# EAGLE library part TMS320VC5510AZGW2 (library DSPs)
IC FIXED POINT DSP 240-BGA Manufacturer's datasheet <http://www.ti.com/lit/ds/symlink/tms320vc5510a.pdf>
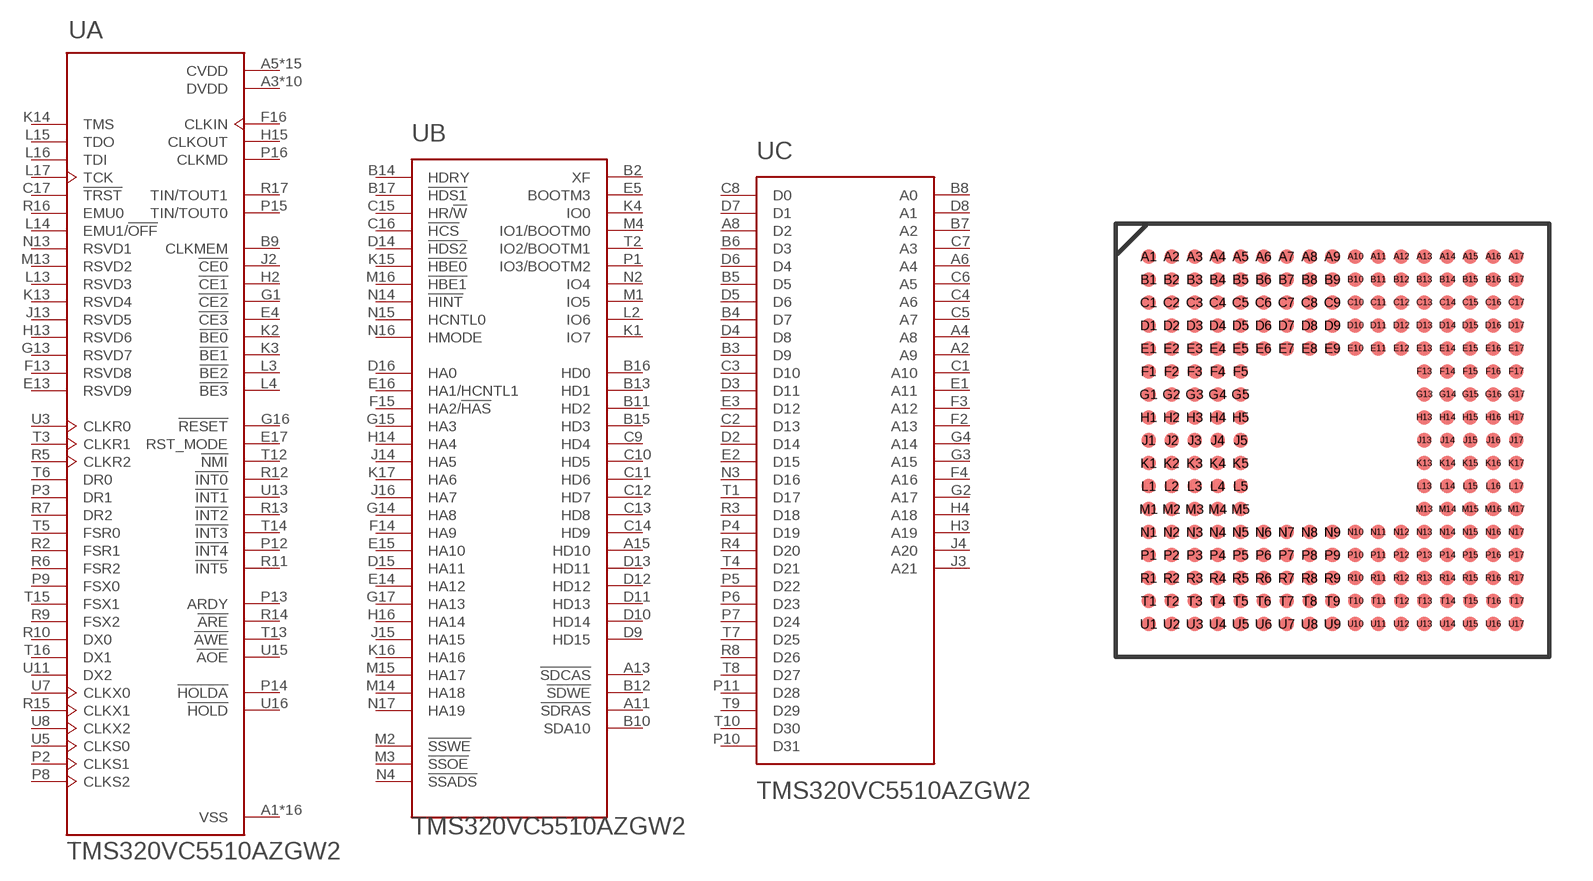
[diagram p7: symbol with the pads of BGA240; footprint BGA240]

Designator prefix U; gates A=TMS320VC5510AZGW2-1 B=TMS320VC5510AZGW2-3 C=TMS320VC5510AZGW2-2

## TMS320VC5510AZGW2 (CREATED_BY: PCBLayout.com; DIGIKEY_PART_NO: 296-26867-ND; MANUFACTURER: Texas Instruments; MPN: TMS320VC5510AZGW2; PACKAGE: BGA-240)  [BGA240]
A1  A:VSS  pwr
A2  C:A9  out
A3  A:DVDD  pwr
A4  C:A8  out
A5  A:CVDD  pwr
A6  C:A4  out
A7  A:DVDD  pwr
A8  C:D2
A9  A:VSS  pwr
A10  A:VSS  pwr
A11  B:!SDRAS  out
A12  A:DVDD  pwr
A13  B:!SDCAS  out
A14  A:CVDD  pwr
A15  B:HD10
A16  A:VSS  pwr
A17  A:VSS  pwr
B1  A:VSS  pwr
B2  B:XF  out
B3  C:D9
B4  C:D7
B5  C:D5
B6  C:D3
B7  C:A2  out
B8  C:A0  out
B9  A:CLKMEM  out
B10  B:SDA10  out
B11  B:HD2
B12  B:!SDWE  out
B13  B:HD1
B14  B:HDRY  out
B15  B:HD3
B16  B:HD0
B17  B:!HDS1  in
C1  C:A10  out
C2  C:D13
C3  C:D10
C4  C:A6  out
C5  C:A7  out
C6  C:A5  out
C7  C:A3  out
C8  C:D0
C9  B:HD4
C10  B:HD5
C11  B:HD6
C12  B:HD7
C13  B:HD8
C14  B:HD9
C15  B:HR/!W  in
C16  B:!HCS  in
C17  A:!TRST  in
D1  A:DVDD  pwr
D2  C:D14
D3  C:D11
D4  C:D8
D5  C:D6
D6  C:D4
D7  C:D1
D8  C:A1  out
D9  B:HD15
D10  B:HD14
D11  B:HD13
D12  B:HD12
D13  B:HD11
D14  B:!HDS2  in
D15  B:HA11  in
D16  B:HA0  in
D17  A:DVDD  pwr
E1  C:A11  out
E2  C:D15
E3  C:D12
E4  A:!CE3  out
E5  B:BOOTM3  in
E6  A:CVDD  pwr
E7  A:CVDD  pwr
E10  A:CVDD  pwr
E13  A:RSVD9
E14  B:HA12  in
E15  B:HA10  in
E16  B:HA1/HCNTL1  in
E17  A:RST_MODE  in
F1  A:DVDD  pwr
F2  C:A13  out
F3  C:A12  out
F4  C:A16  out
F5  A:CVDD  pwr
F13  A:RSVD8
F14  B:HA9  in
F15  B:HA2/!HAS  in
F16  A:CLKIN  in
F17  A:CVDD  pwr
G1  A:!CE2  out
G2  C:A17  out
G3  C:A15  out
G4  C:A14  out
G13  A:RSVD7
G14  B:HA8  in
G15  B:HA3  in
G16  A:!RESET  in
G17  B:HA13  in
H1  A:VSS  pwr
H2  A:!CE1  out
H3  C:A19  out
H4  C:A18  out
H13  A:RSVD6
H14  B:HA4  in
H15  A:CLKOUT  out
H16  B:HA14  in
H17  A:VSS  pwr
J1  A:VSS  pwr
J2  A:!CE0  out
J3  C:A21  out
J4  C:A20  out
J13  A:RSVD5
J14  B:HA5  in
J15  B:HA15  in
J16  B:HA7  in
J17  A:VSS  pwr
K1  B:IO7
K2  A:!BE0  out
K3  A:!BE1  out
K4  B:IO0
K5  A:CVDD  pwr
K13  A:RSVD4
K14  A:TMS  in
K15  B:!HBE0  in
K16  B:HA16  in
K17  B:HA6  in
L1  A:CVDD  pwr
L2  B:IO6
L3  A:!BE2  out
L4  A:!BE3  out
L13  A:RSVD3
L14  A:EMU1/!OFF
L15  A:TDO  out
L16  A:TDI  in
L17  A:TCK  in
M1  B:IO5
M2  B:!SSWE  out
M3  B:!SSOE  out
M4  B:IO1/BOOTM0
M13  A:RSVD2
M14  B:HA18  in
M15  B:HA17  in
M16  B:!HBE1  in
M17  A:DVDD  pwr
N1  A:DVDD  pwr
N2  B:IO4
N3  C:D16
N4  B:!SSADS  out
N6  A:CVDD  pwr
N10  A:CVDD  pwr
N13  A:RSVD1
N14  B:!HINT  out
N15  B:HCNTL0  in
N16  B:HMODE  in
N17  B:HA19  in
P1  B:IO3/BOOTM2
P2  A:CLKS1  in
P3  A:DR1  in
P4  C:D19
P5  C:D22
P6  C:D23
P7  C:D24
P8  A:CLKS2  in
P9  A:FSX0
P10  C:D31
P11  C:D28
P12  A:!INT4  in
P13  A:ARDY  in
P14  A:!HOLDA  out
P15  A:TIN/TOUT0
P16  A:CLKMD  in
P17  A:CVDD  pwr
R1  A:CVDD  pwr
R2  A:FSR1
R3  C:D18
R4  C:D20
R5  A:CLKR2
R6  A:FSR2
R7  A:DR2  in
R8  C:D26
R9  A:FSX2
R10  A:DX0  out
R11  A:!INT5  in
R12  A:!INT0  in
R13  A:!INT2  in
R14  A:!ARE  out
R15  A:CLKX1
R16  A:EMU0
R17  A:TIN/TOUT1
T1  C:D17
T2  B:IO2/BOOTM1
T3  A:CLKR1
T4  C:D21
T5  A:FSR0
T6  A:DR0  in
T7  C:D25
T8  C:D27
T9  C:D29
T10  C:D30
T12  A:!NMI  in
T13  A:!AWE  out
T14  A:!INT3  in
T15  A:FSX1
T16  A:DX1  out
T17  A:VSS  pwr
U1  A:VSS  pwr
U2  A:VSS  pwr
U3  A:CLKR0
U4  A:CVDD  pwr
U5  A:CLKS0  in
U6  A:DVDD  pwr
U7  A:CLKX0
U8  A:CLKX2
U9  A:VSS  pwr
U10  A:VSS  pwr
U11  A:DX2  out
U12  A:CVDD  pwr
U13  A:!INT1  in
U14  A:DVDD  pwr
U15  A:!AOE  out
U16  A:!HOLD  in
U17  A:VSS  pwr

## Footprint BGA240 (pad centres in mm)
smd 0.5 x 0.5: A1 -6.4,6.4; A2 -5.6,6.4; A3 -4.8,6.4; A4 -4,6.4; A5 -3.2,6.4; A6 -2.4,6.4; A7 -1.6,6.4; A8 -0.8,6.4; A9 0,6.4; A10 0.8,6.4; A11 1.6,6.4; A12 2.4,6.4; A13 3.2,6.4; A14 4,6.4; A15 4.8,6.4; A16 5.6,6.4; A17 6.4,6.4; B1 -6.4,5.6; B2 -5.6,5.6; B3 -4.8,5.6; B4 -4,5.6; B5 -3.2,5.6; B6 -2.4,5.6; B7 -1.6,5.6; B8 -0.8,5.6; B9 0,5.6; B10 0.8,5.6; B11 1.6,5.6; B12 2.4,5.6; B13 3.2,5.6; B14 4,5.6; B15 4.8,5.6; B16 5.6,5.6; B17 6.4,5.6; C1 -6.4,4.8; C2 -5.6,4.8; C3 -4.8,4.8; C4 -4,4.8; C5 -3.2,4.8; C6 -2.4,4.8; C7 -1.6,4.8; C8 -0.8,4.8; C9 0,4.8; C10 0.8,4.8; C11 1.6,4.8; C12 2.4,4.8; C13 3.2,4.8; C14 4,4.8; C15 4.8,4.8; C16 5.6,4.8; C17 6.4,4.8; D1 -6.4,4; D2 -5.6,4; D3 -4.8,4; D4 -4,4; D5 -3.2,4; D6 -2.4,4; D7 -1.6,4; D8 -0.8,4; D9 0,4; D10 0.8,4; D11 1.6,4; D12 2.4,4; D13 3.2,4; D14 4,4; D15 4.8,4; D16 5.6,4; D17 6.4,4; E1 -6.4,3.2; E2 -5.6,3.2; E3 -4.8,3.2; E4 -4,3.2; E5 -3.2,3.2; E6 -2.4,3.2; E7 -1.6,3.2; E8 -0.8,3.2; E9 0,3.2; E10 0.8,3.2; E11 1.6,3.2; E12 2.4,3.2; E13 3.2,3.2; E14 4,3.2; E15 4.8,3.2; E16 5.6,3.2; E17 6.4,3.2; F1 -6.4,2.4; F2 -5.6,2.4; F3 -4.8,2.4; F4 -4,2.4; F5 -3.2,2.4; F13 3.2,2.4; F14 4,2.4; F15 4.8,2.4; F16 5.6,2.4; F17 6.4,2.4; G1 -6.4,1.6; G2 -5.6,1.6; G3 -4.8,1.6; G4 -4,1.6; G5 -3.2,1.6; G13 3.2,1.6; G14 4,1.6; G15 4.8,1.6; G16 5.6,1.6; G17 6.4,1.6; H1 -6.4,0.8; H2 -5.6,0.8; H3 -4.8,0.8; H4 -4,0.8; H5 -3.2,0.8; H13 3.2,0.8; H14 4,0.8; H15 4.8,0.8; H16 5.6,0.8; H17 6.4,0.8; J1 -6.4,0; J2 -5.6,0; J3 -4.8,0; J4 -4,0; J5 -3.2,0; J13 3.2,0; J14 4,0; J15 4.8,0; J16 5.6,0; J17 6.4,0; K1 -6.4,-0.8; K2 -5.6,-0.8; K3 -4.8,-0.8; K4 -4,-0.8; K5 -3.2,-0.8; K13 3.2,-0.8; K14 4,-0.8; K15 4.8,-0.8; K16 5.6,-0.8; K17 6.4,-0.8; L1 -6.4,-1.6; L2 -5.6,-1.6; L3 -4.8,-1.6; L4 -4,-1.6; L5 -3.2,-1.6; L13 3.2,-1.6; L14 4,-1.6; L15 4.8,-1.6; L16 5.6,-1.6; L17 6.4,-1.6; M1 -6.4,-2.4; M2 -5.6,-2.4; M3 -4.8,-2.4; M4 -4,-2.4; M5 -3.2,-2.4; M13 3.2,-2.4; M14 4,-2.4; M15 4.8,-2.4; M16 5.6,-2.4; M17 6.4,-2.4; N1 -6.4,-3.2; N2 -5.6,-3.2; N3 -4.8,-3.2; N4 -4,-3.2; N5 -3.2,-3.2; N6 -2.4,-3.2; N7 -1.6,-3.2; N8 -0.8,-3.2; N9 0,-3.2; N10 0.8,-3.2; N11 1.6,-3.2; N12 2.4,-3.2; N13 3.2,-3.2; N14 4,-3.2; N15 4.8,-3.2; N16 5.6,-3.2; N17 6.4,-3.2; P1 -6.4,-4; P2 -5.6,-4; P3 -4.8,-4; P4 -4,-4; P5 -3.2,-4; P6 -2.4,-4; P7 -1.6,-4; P8 -0.8,-4; P9 0,-4; P10 0.8,-4; P11 1.6,-4; P12 2.4,-4; P13 3.2,-4; P14 4,-4; P15 4.8,-4; P16 5.6,-4; P17 6.4,-4; R1 -6.4,-4.8; R2 -5.6,-4.8; R3 -4.8,-4.8; R4 -4,-4.8; R5 -3.2,-4.8; R6 -2.4,-4.8; R7 -1.6,-4.8; R8 -0.8,-4.8; R9 0,-4.8; R10 0.8,-4.8; R11 1.6,-4.8; R12 2.4,-4.8; R13 3.2,-4.8; R14 4,-4.8; R15 4.8,-4.8; R16 5.6,-4.8; R17 6.4,-4.8; T1 -6.4,-5.6; T2 -5.6,-5.6; T3 -4.8,-5.6; T4 -4,-5.6; T5 -3.2,-5.6; T6 -2.4,-5.6; T7 -1.6,-5.6; T8 -0.8,-5.6; T9 0,-5.6; T10 0.8,-5.6; T11 1.6,-5.6; T12 2.4,-5.6; T13 3.2,-5.6; T14 4,-5.6; T15 4.8,-5.6; T16 5.6,-5.6; T17 6.4,-5.6; U1 -6.4,-6.4; U2 -5.6,-6.4; U3 -4.8,-6.4; U4 -4,-6.4; U5 -3.2,-6.4; U6 -2.4,-6.4; U7 -1.6,-6.4; U8 -0.8,-6.4; U9 0,-6.4; U10 0.8,-6.4; U11 1.6,-6.4; U12 2.4,-6.4; U13 3.2,-6.4; U14 4,-6.4; U15 4.8,-6.4; U16 5.6,-6.4; U17 6.4,-6.4